# Altium schematic symbol library Schlib1.SchLib: 27 symbols
Pins are listed as number, name and electrical type; pins without a type are passive.

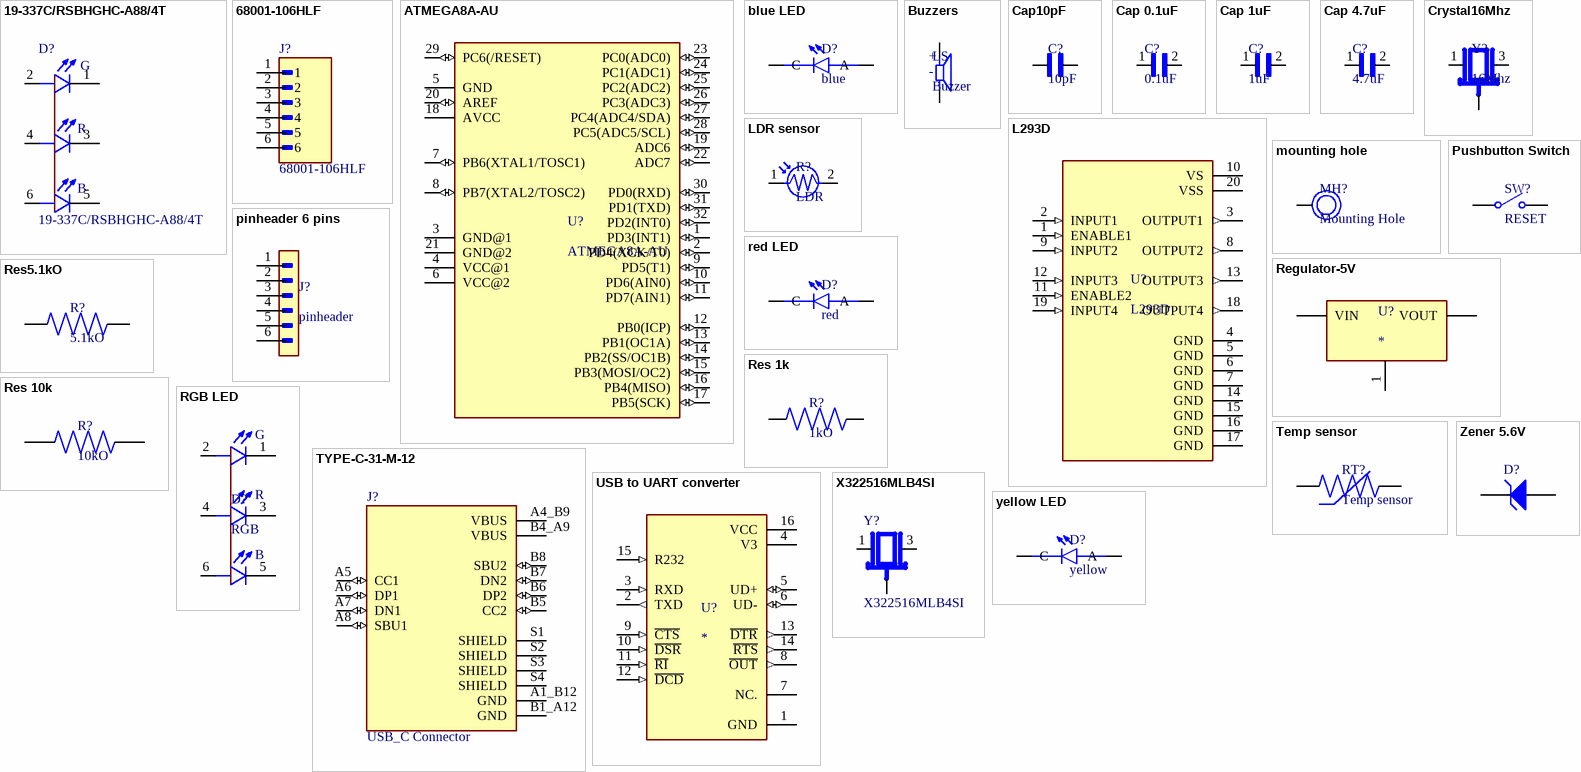
[diagram p0: symbols 19-337C/RSBHGHC-A88/4T to Zener 5.6V]

## 19-337C/RSBHGHC-A88/4T
designator D?
Red, Green, Blue (RGB) 625nm Red, 530nm Green, 470nm Blue LED Indication - Discrete 2.05V Red, 2.9V Green, 2.9V Blue 0606 (1616 Metric); MF: Everlight Electronics Co Ltd; Purchase-URL: https://pricing.snapeda.com/search/part/19-337C/RSBHGHC-A88/4T/?ref=eda; Package: 0606 Everlight Electronics Co Ltd; SnapEDA_Link: https://www.snapeda.com/parts/19-337C/RSBHGHC-A88/4T/Everlight+Electronics+Co+Ltd/view-part/?ref=snap; Value: *; MP: 19-337C/RSBHGHC-A88/4T; Check_prices: https://www.snapeda.com/parts/19-337C/RSBHGHC-A88/4T/Everlight+Electronics+Co+Ltd/view-part/?ref=eda; Availability: In Stock; Price: None
footprint LED_19-337C/RSBHGHC-A88/4T
pins: 1 G_C, 2 G_A, 3 R_C, 4 R_A, 5 B_C, 6 B_A
text: G; R; B

## 68001-106HLF
designator J?
Conn Rect UnshroudedHdr 6Cnts ThruHole BergStik 2.54mmPin-Spng Vert 1-Row | Amphenol FCI (Amphenol CS) 68001-106HLF; MF: AMPHENOL ICC / FCI; SnapEDA_Link: https://www.snapeda.com/parts/68001-106HLF/Amphenol/view-part/?ref=snap; Package: None; Value: *; MP: 68001-106HLF; Check_prices: https://www.snapeda.com/parts/68001-106HLF/Amphenol/view-part/?ref=eda
footprint AMPHENOL_68001-106HLF
pins: 1, 2, 3, 4, 5, 6

## ATMEGA8A-AU
designator U?
8KB 1KB FLASH 23 2.7V~5.5V AVR 16MHz TQFP-32(7x7) Microcontrollers (MCU/MPU/SOC) ROHS; Manufacrurar: Microchip Tech; Manufacturer Part Number: ATMEGA8A-AU; Supplier: LCSC; Supplier Part Number: C16190
footprint ATMEGA8A-AU (8KB 1KB FLASH 23 2.7V~5.5V AVR 16MHz TQFP-32(7x7) Microcontrollers (MCU/MPU/SOC) ROHS)
pins: 1 PD3(INT1) (io), 2 PD4(XCK/T0) (io), 3 GND@1 (power), 4 VCC@1 (power), 5 GND (power), 6 VCC@2 (power), 7 PB6(XTAL1/TOSC1) (io), 8 PB7(XTAL2/TOSC2) (io), 9 PD5(T1) (io), 10 PD6(AIN0) (io), 11 PD7(AIN1) (io), 12 PB0(ICP) (io), 13 PB1(OC1A) (io), 14 PB2(SS/OC1B) (io), 15 PB3(MOSI/OC2) (io), 16 PB4(MISO) (io), 17 PB5(SCK) (io), 18 AVCC (power), 19 ADC6 (io), 20 AREF (io), 21 GND@2 (power), 22 ADC7 (io), 23 PC0(ADC0) (io), 24 PC1(ADC1) (io), 25 PC2(ADC2) (io), 26 PC3(ADC3) (io), 27 PC4(ADC4/SDA) (io), 28 PC5(ADC5/SCL) (io), 29 PC6(/RESET) (io), 30 PD0(RXD) (io), 31 PD1(TXD) (io), 32 PD2(INT0) (io)

## blue LED
designator D?, comment blue
20mA 104mcd Colorless transparent lens -20℃~+80℃ 465nm~475nm Blue 130° 76mW 3.3V 0805 LED Indication - Discrete ROHS; Manufacrurar: Lite-On; Manufacturer Part Number: LTST-C170TBKT; Supplier: LCSC; Supplier Part Number: C98222
footprint red LED (20mA 99mcd Colorless transparent lens -30℃~+85℃ 631nm Red 130° 62.5mW 2V 0603 LED Indication - Discrete ROHS)
pins: A, C

## Buzzers
designator LS, comment Buzzer
65dB Passive (external drive) Piezoelectric 4kHz Buzzers ROHS; Manufacrurar: Murata Electronics; Manufacturer Part Number: PKMCS0909E4000-R1; Supplier: LCSC; Supplier Part Number: C910763
footprint Buzzers (65dB Passive (external drive) Piezoelectric 4kHz Buzzers ROHS)
pins: 1 P, 2 N
text: +; -

## Cap10pF
designator C?, comment 10pF
16V 10pF null ±5% 01005 Multilayer Ceramic Capacitors MLCC - SMD/SMT ROHS; Manufacrurar: Murata Electronics; Manufacturer Part Number: GRM0225C1C100JA03L; Supplier: LCSC; Supplier Part Number: C710762
footprint Cap10pF (16V 10pF null ±5% 01005 Multilayer Ceramic Capacitors MLCC - SMD/SMT ROHS)
pins: 1, 2

## Cap 0.1uF
designator C?, comment 0.1uF
50V 100nF X7R ±10% 0402 Multilayer Ceramic Capacitors MLCC - SMD/SMT ROHS; Manufacrurar: Murata Electronics; Manufacturer Part Number: GRM155R71H104KE14D; Supplier: LCSC; Supplier Part Number: C77020
footprint Cap0.1uF (50V 100nF X7R ±10% 0402 Multilayer Ceramic Capacitors MLCC - SMD/SMT ROHS)
pins: 1, 2

## Cap 1uF
designator C?, comment 1uF
10V 1uF X5R ±20% 0201 Multilayer Ceramic Capacitors MLCC - SMD/SMT ROHS; Manufacrurar: Murata Electronics; Manufacturer Part Number: GRM033R61A105ME44D; Supplier: LCSC; Supplier Part Number: C76935
footprint Cap 1uF (10V 1uF X5R ±20% 0201 Multilayer Ceramic Capacitors MLCC - SMD/SMT ROHS)
pins: 1, 2

## Cap 4.7uF
designator C?, comment 4.7uF
10V 4.7uF X5R ±20% 0402 Multilayer Ceramic Capacitors MLCC - SMD/SMT ROHS; Manufacrurar: Murata Electronics; Manufacturer Part Number: GRM155R61A475MEAAD; Supplier: LCSC; Supplier Part Number: C335105
footprint Cap4.7uF (10V 4.7uF X5R ±20% 0402 Multilayer Ceramic Capacitors MLCC - SMD/SMT ROHS)
pins: 1, 2

## Crystal16Mhz
designator Y?, comment 16Mhz
1.8V~3.3V ±10ppm ±20ppm CMOS 16MHz SMD3225-4P Crystal Oscillators ROHS; Manufacrurar: YXC Crystal Oscillators; Manufacturer Part Number: OT2EL4C4JI-111OLP-16M; Supplier: LCSC; Supplier Part Number: C5189452
footprint Crystal16Mhz (1.8V~3.3V ±10ppm ±20ppm CMOS 16MHz SMD3225-4P Crystal Oscillators ROHS)
pins: 1, 2 GND (power), 3, 4 GND (power)

## L293D
designator U?
SOIC-20-300mil Stepper Motor Driver ROHS; Manufacrurar: STMicroelectronics; Manufacturer Part Number: L293DD013TR; Supplier: LCSC; Supplier Part Number: C21610
footprint L293D (SOIC-20-300mil Stepper Motor Driver ROHS)
pins: 1 ENABLE1 (in), 2 INPUT1 (in), 3 OUTPUT1 (out), 4 GND (power), 5 GND (power), 6 GND (power), 7 GND (power), 8 OUTPUT2 (out), 9 INPUT2 (in), 10 VS (power), 11 ENABLE2 (in), 12 INPUT3 (in), 13 OUTPUT3 (out), 14 GND (power), 15 GND (power), 16 GND (power), 17 GND (power), 18 OUTPUT4 (out), 19 INPUT4 (in), 20 VSS (power)

## LDR sensor
designator R?, comment LDR
SMD,2.4x3.6mm Photoresistors ROHS; Manufacrurar: JCHL(Shenzhen Jing Chuang He Li Tech); Manufacturer Part Number: GT36528; Supplier: LCSC; Supplier Part Number: C2904881
footprint LDR sensor (SMD,2.4x3.6mm Photoresistors ROHS)
pins: 1, 2

## mounting hole
designator MH?, comment Mounting Hole
mounting hole 3.2mm inner diameter and 5.6mm outer
footprint Mounting Hole (mounting hole 3.2mm inner diameter and 5.6mm outer)
pins: 1

## pinheader 6 pins
designator J?, comment pinheader
3A Direct Insert Policy 2.54mm 6P 5.84mm -65℃~+125℃ 3.05mm 2.54mm Single Row Phosphor Bronze Black Plugin,P=2.54mm Pin Headers ROHS; Manufacrurar: Amphenol ICC; Manufacturer Part Number: 68001-106HLF; Supplier: LCSC; Supplier Part Number: C3330006
footprint pinheader 6 pins (3A Direct Insert Policy 2.54mm 6P 5.84mm -65℃~+125℃ 3.05mm 2.54mm Single Row Phosphor Bronze Black Plugin,P=2.54mm Pin Headers ROHS)
pins: 1, 2, 3, 4, 5, 6

## Pushbutton Switch
designator SW?, comment RESET
6mm 5mm Round Button 50mA Standing paste 6mm SPST 24V SMD Tactile Switches ROHS; Manufacrurar: TE Connectivity; Manufacturer Part Number: 4-1437565-2; Supplier: LCSC; Supplier Part Number: C86487
footprint Pushbutton Switch
pins: 1 COM, 2 COM, 3 NO, 4 NO

## red LED
designator D?, comment red
20mA 99mcd Colorless transparent lens -30℃~+85℃ 631nm Red 130° 62.5mW 2V 0603 LED Indication - Discrete ROHS; Manufacrurar: Lite-On; Manufacturer Part Number: LTST-C190KRKT; Supplier: LCSC; Supplier Part Number: C94869
footprint red LED (20mA 99mcd Colorless transparent lens -30℃~+85℃ 631nm Red 130° 62.5mW 2V 0603 LED Indication - Discrete ROHS)
pins: A, C

## Regulator-5V
designator U?
1A 60dB@(120Hz) Fixed 5V Positive electrode 12V SOT-223 Voltage Regulators - Linear, Low Drop Out (LDO) Regulators ROHS; Manufacrurar: UMW(Youtai Semiconductor Co., Ltd.); Manufacturer Part Number: AMS1117-5.0; Supplier: LCSC; Supplier Part Number: C347223
footprint Regulator-5V (1A 60dB@(120Hz) Fixed 5V Positive electrode 12V SOT-223 Voltage Regulators - Linear, Low Drop Out (LDO) Regulators ROHS)
pins: 1 GND/ADJ (power), 2 VOUT (power), 3 VIN (power)

## Res5.1kO
designator R?, comment 5.1kO
100mW Thick Film Resistors ±5% ±200ppm/℃ 5.1kΩ 0402 Chip Resistor - Surface Mount ROHS; Manufacrurar: PANASONIC; Manufacturer Part Number: ERJ2GEJ512X; Supplier: LCSC; Supplier Part Number: C413002
footprint Res5.1kO (100mW Thick Film Resistors ±5% ±200ppm/℃ 5.1kΩ 0402 Chip Resistor - Surface Mount ROHS)
pins: 1, 2

## Res 1k
designator R?, comment 1kO
100mW Thick Film Resistors ±100ppm/℃ ±1% 1kΩ 0402 Chip Resistor - Surface Mount ROHS; Manufacrurar: PANASONIC; Manufacturer Part Number: ERJ2RKF1001X; Supplier: LCSC; Supplier Part Number: C191124
footprint Res1k (100mW Thick Film Resistors ±100ppm/℃ ±1% 1kΩ 0402 Chip Resistor - Surface Mount ROHS)
pins: 1, 2

## Res 10k
designator R?, comment 10kO
100mW Thick Film Resistors ±100ppm/℃ ±1% 10kΩ 0603 Chip Resistor - Surface Mount ROHS; Manufacrurar: PANASONIC; Manufacturer Part Number: ERJ3EKF1002V; Supplier: LCSC; Supplier Part Number: C191124
footprint Res10k (100mW Thick Film Resistors ±100ppm/℃ ±1% 10kΩ 0603 Chip Resistor - Surface Mount ROHS)
pins: 1, 2

## RGB LED
designator D?, comment RGB
0606 RGB LEDs ROHS; Manufacrurar: Everlight Elec; Manufacturer Part Number: 19-337C/RSBHGHC-A88/4T; Supplier: LCSC; Supplier Part Number: C3019536
footprint RGB LED (0606 RGB LEDs ROHS)
pins: 1 G_C, 2 G_A, 3 R_C, 4 R_A, 5 B_C, 6 B_A
text: G; R; B

## Temp sensor
designator RT?
100kΩ 32uA ±0.5% 4250K ±0.5% 0402 NTC Thermistors ROHS; Manufacrurar: Murata Electronics; Manufacturer Part Number: NCU15WF104D60RC; Supplier: LCSC; Supplier Part Number: C426654
footprint Temp sensor (100kΩ 32uA ±0.5% 4250K ±0.5% 0402 NTC Thermistors ROHS)
pins: 1, 2

## TYPE-C-31-M-12
designator J?, comment USB_C Connector
5A 1 16P Female Type-C SMD USB Connectors ROHS; Manufacrurar: Korean Hroparts Elec; Manufacturar Part Number: TYPE-C-31-M-12; Supplier: LCSC; Supplier Part Number: C165948
footprint TYPE-C-31-M-12 (5A 1 16P Female Type-C SMD USB Connectors ROHS)
pins: A1_B12 GND (power), A4_B9 VBUS (power), A5 CC1 (io), A6 DP1 (io), A7 DN1 (io), A8 SBU1 (io), B1_A12 GND (power), B4_A9 VBUS (power), B5 CC2 (io), B6 DP2 (io), B7 DN2 (io), B8 SBU2 (io), S1 SHIELD, S2 SHIELD, S3 SHIELD, S4 SHIELD

## USB to UART converter
designator U?
2Mbps Transceiver USB 2.0 SOP-16 USB Converters ROHS; Manufacrurar: WCH(Jiangsu Qin Heng); Manufacturer Part Number: CH340C; Supplier: LCSC; Supplier Part Number: C84681
footprint USB to UART converter (2Mbps Transceiver USB 2.0 SOP-16 USB Converters ROHS)
pins: 1 GND (power), 2 TXD (out), 3 RXD (in), 4 V3 (power), 5 UD+ (io), 6 UD- (io), 7 NC., 8 ~{OUT} (out), 9 ~{CTS} (in), 10 ~{DSR} (in), 11 ~{RI} (in), 12 ~{DCD} (in), 13 ~{DTR} (out), 14 ~{RTS} (out), 15 R232 (in), 16 VCC (power)

## X322516MLB4SI
designator Y?
External dimensions: 3.2 x 2.5 x 0.8 mm.Frequency range: 11.0592MHz ~54MHz; MF: YXC; Availability: Unavailable; MP: X322516MLB4SI; Package: Package; SnapEDA_Link: https://www.snapeda.com/parts/X322516MLB4SI/YXC/view-part/4703090/?ref=snap; Check_prices: https://www.snapeda.com/parts/X322516MLB4SI/YXC/view-part/4703090/?ref=eda; Value: *; Price: None
footprint OSC_X322516MLB4SI
pins: 1, 2 GND (power), 3, 4 GND (power)

## yellow LED
designator D?, comment yellow
20mA 6mcd Colorless transparent lens -55℃~+85℃ 569nm Yellow Green 130° 100mW 2.1V 0603 LED Indication - Discrete ROHS; Manufacrurar: Lite-On; Manufacturer Part Number: LTST-C190GKT; Supplier: LCSC; Supplier Part Number: C125093
footprint yellow LED (20mA 6mcd Colorless transparent lens -55℃~+85℃ 569nm Yellow Green 130° 100mW 2.1V 0603 LED Indication - Discrete ROHS)
pins: A, C

## Zener 5.6V
designator D?, comment Zener  (value not drawn)
Independent Type 5.2V~6V 500mW 5.6V SOD-123 Zener Diodes ROHS; Manufacturer: Diodes Incorporated; Manufacturer Part Number: BZT52C5V6-7-F; Supplier: LCSC; Supplier Part Number: C397930
footprint Zener 5.6V (Independent Type 5.2V~6V 500mW 5.6V SOD-123 Zener Diodes ROHS)
pins: 1 K, 2 A